# EAGLE library part BTS4160DGA (library PROFET - Infineon)
BTS4160DGA Smart High-Side Power Switch, Two Channel Device, VBB 43V, RDS(ON) 320mOhm SOIC127P600X175-14N-9
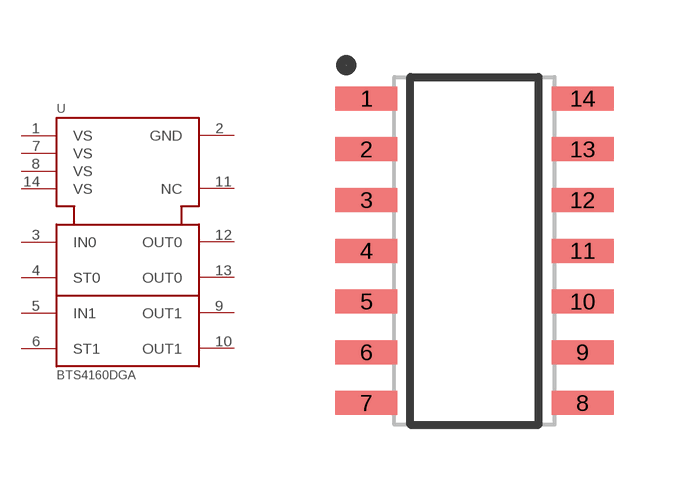
[diagram p28: symbol with the pads of SOIC127P600X175-14N-9; footprint SOIC127P600X175-14N-9]

Designator prefix U

## BTS4160DGA  [SOIC127P600X175-14N-9]
1  VS  pwr
2  GND  pwr
3  IN0  in
4  ST0  oc
5  IN1  in
6  ST1  oc
7  VS  pwr
8  VS  pwr
9  OUT1  out
10  OUT1  out
11  NC  pas
12  OUT0  out
13  OUT0  out
14  VS  pwr

## Footprint SOIC127P600X175-14N-9 (pad centres in mm)
Original name SOIC127P600X175-14N-9 Max Component Height - 1.75mm
smd 1.55 x 0.6: 1 -2.7,3.81; 2 -2.7,2.54; 3 -2.7,1.27; 4 -2.7,0; 5 -2.7,-1.27; 6 -2.7,-2.54; 7 -2.7,-3.81; 8 2.7,-3.81; 9 2.7,-2.54; 10 2.7,-1.27; 11 2.7,0; 12 2.7,1.27; 13 2.7,2.54; 14 2.7,3.81